# EAGLE library part ADS7871 (library Mine)
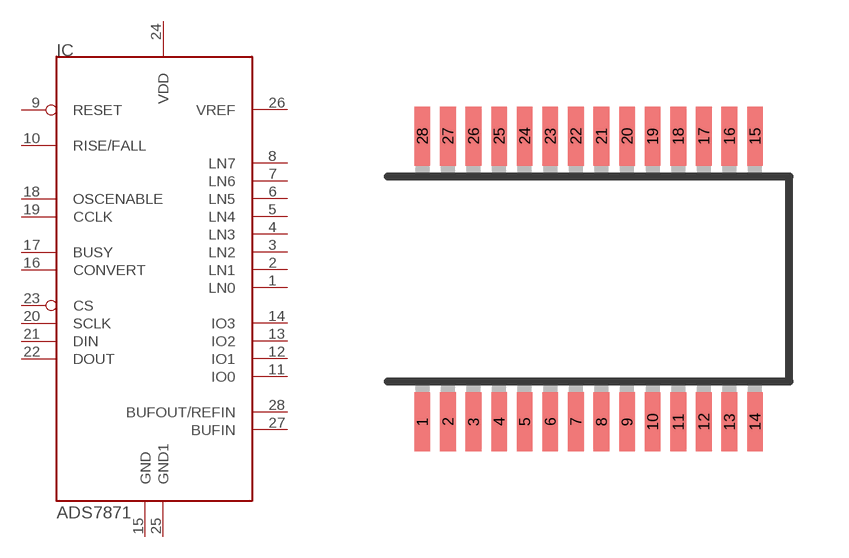
[diagram p54: symbol with the pads of SSOP28; footprint SSOP28]

Designator prefix IC

## ADS7871  [SSOP28]
1  LN0  in
2  LN1  in
3  LN2  in
4  LN3  in
5  LN4  in
6  LN5  in
7  LN6  in
8  LN7  in
9  RESET  in
10  RISE/FALL  in
11  IO0
12  IO1
13  IO2
14  IO3
15  GND  pwr
16  CONVERT  in
17  BUSY  out
18  OSCENABLE  in
19  CCLK
20  SCLK  in
21  DIN
22  DOUT  out
23  CS  in
24  VDD  sup
25  GND1  pwr
26  VREF  out
27  BUFIN  in
28  BUFOUT/REFIN

## Footprint SSOP28 (pad centres in mm)
Shrink Small Outline Package package type SS
smd 0.4 x 1.5: 1 -4.225,-3.625; 2 -3.575,-3.625; 3 -2.925,-3.625; 4 -2.275,-3.625; 5 -1.625,-3.625; 6 -0.975,-3.625; 7 -0.325,-3.625; 8 0.325,-3.625; 9 0.975,-3.625; 10 1.625,-3.625; 11 2.275,-3.625; 12 2.925,-3.625; 13 3.575,-3.625; 14 4.225,-3.625; 15 4.225,3.625; 16 3.575,3.625; 17 2.925,3.625; 18 2.275,3.625; 19 1.625,3.625; 20 0.975,3.625; 21 0.325,3.625; 22 -0.325,3.625; 23 -0.975,3.625; 24 -1.625,3.625; 25 -2.275,3.625; 26 -2.925,3.625; 27 -3.575,3.625; 28 -4.225,3.625